# EAGLE library part PIKSEY_ATTO_C (library Piksey_Atto)
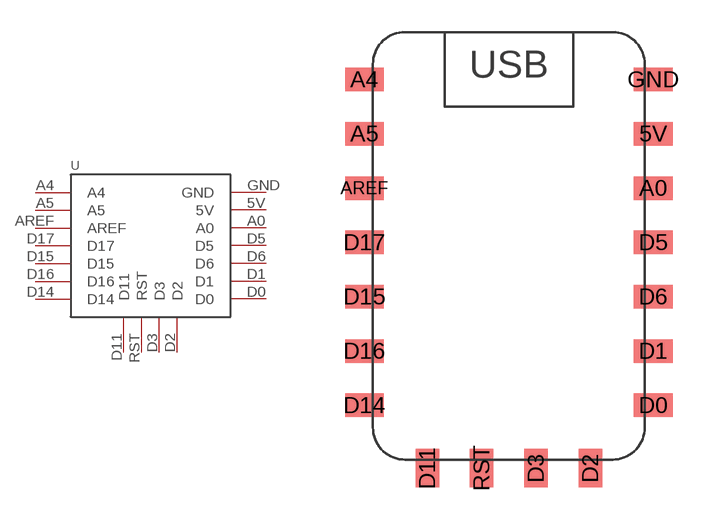
[diagram p0: symbol with the pads of PIKSEY_ATTO_C; footprint PIKSEY_ATTO_C]

Designator prefix -

## PIKSEY_ATTO_C  [PIKSEY_ATTO_C]
5V  5V
A0  A0
A4  A4
A5  A5
AREF  AREF
D0  D0
D1  D1
D2  D2
D3  D3
D5  D5
D6  D6
D11  D11
D14  D14
D15  D15
D16  D16
D17  D17
GND  GND
RST  RST

## Footprint PIKSEY_ATTO_C (pad centres in mm)
smd 1.8 x 1.1: 5V 6.75,15.24; A0 6.75,12.7; A4 -6.75,17.78; A5 -6.75,15.24; AREF -6.75,12.7; D0 6.75,2.54; D1 6.75,5.08; D5 6.75,10.16; D6 6.75,7.62; D14 -6.75,2.54; D15 -6.75,7.62; D16 -6.75,5.08; D17 -6.75,10.16; GND 6.75,17.78
smd 1.1 x 1.8: D2 3.81,-0.4; D3 1.27,-0.4; D11 -3.81,-0.4; RST -1.27,-0.4